# Altium footprint library PD_BQ_Ref_Design_PCB.PcbLib: 40 footprints (part 3 of 3)
Each footprint in its own frame and in the unit in brackets; x right, y up, seen from the top. Pads: shape width x height; smd on the part's side, far side on the other; paste and mask are expansions set on the pad; w line width, h text height; cw(c..) or ccw(c..) is an arc to the next point about the centre after c.
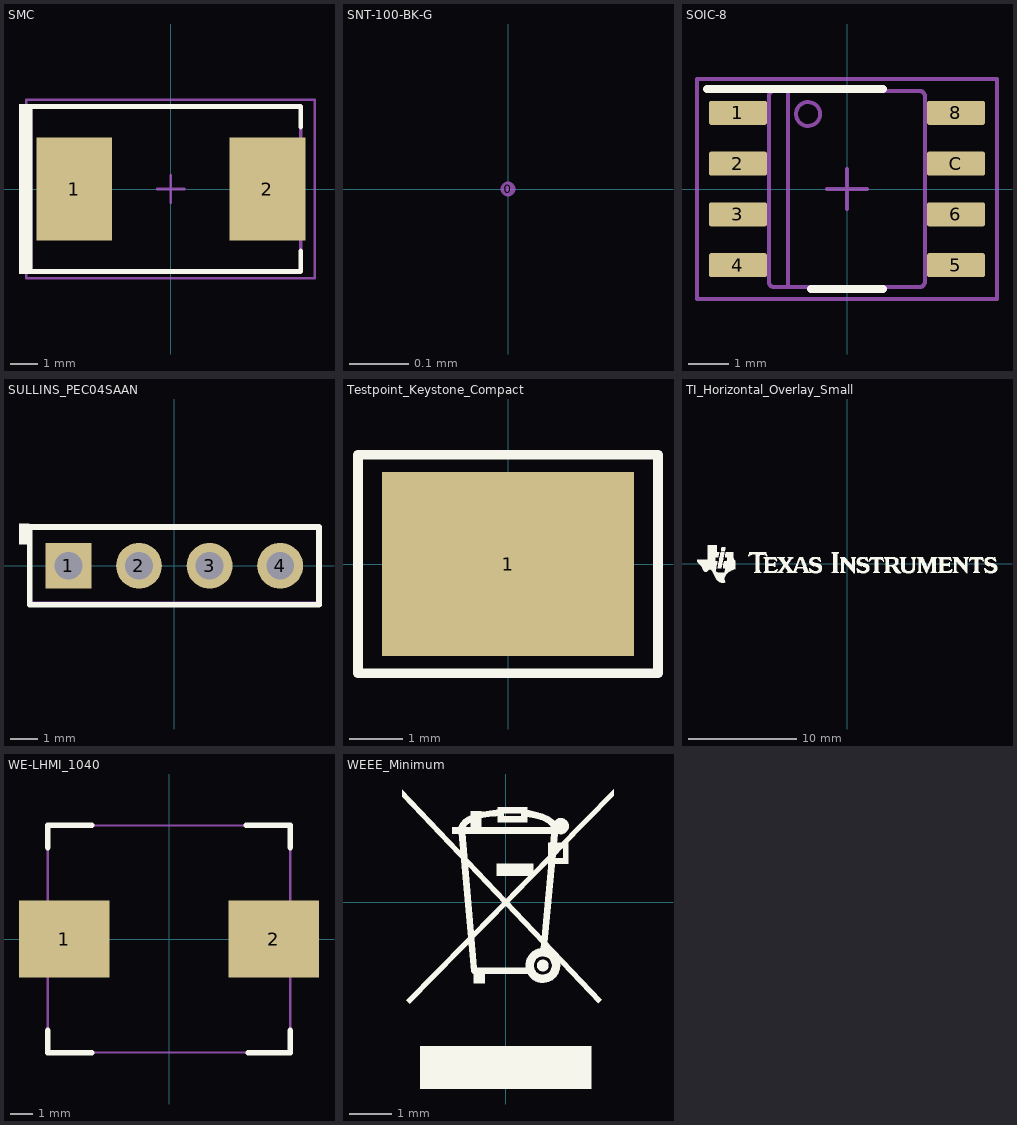
[diagram p2: the footprints below, top view; thin cyan lines are the x and y axes]

## SMC [mil]
pads (2):
  rect 110x150 smd: 1(-140.49,0) 2(140.49,0)
Top Overlay:
  rectangle: -221,-123.5 -201,123.5
  lines w7: -210,-120 189,-120 189,-90.25 ; -210,120 189,120 189,90.25
Mechanical 5:
  rectangle: -221,-123.5 -201,123.5
  lines w5: -210,-120 189,-120 189,120 -210,120
  text ".Designator" at -85,-20 h40
Mechanical 15:
  lines w3.94: -19.69,0 19.68,0 ; 0,-19.68 0,19.68 ; -210.46,-129.92 -210.46,129.92 209.38,129.92 209.38,-129.92 -210.46,-129.92
3D body "SMC_nominal.stp": height 91.25, standoff 0.6, extent -156.49,-116.14 156.5,116.15

## SNT-100-BK-G [mil]
pads (1):
  round 1 on Mech3: 0(0,0)
3D body "SNT-100-XX-X.stp": height 344, standoff 104, extent -100,-50.05 100,50.05

## SOIC-8 [mm]
pads (8):
  rrect17% 1.45x0.6 smd: 1(-2.725,1.905) 2(-2.725,0.635) 3(-2.725,-0.635) 4(-2.725,-1.905) 5(2.725,-1.905) 6(2.725,-0.635) 8(2.725,1.905) C(2.725,0.635)
Top Overlay:
  lines w0.2: -3.5,2.5 0.9,2.5 ; -0.9,-2.5 0.9,-2.5
Mechanical 5:
  circle w0.1: c-0.975,1.875 r0.3
  lines w0.1: -1.475,-2.45 -1.475,2.45 ; -2.375,-2.095 -1.995,-2.095 -1.952,-2.095 -1.952,-1.715 -1.995,-1.715 -2.375,-1.715 ; -2.375,-2.095 -2.589,-2.095 -3.002,-2.095 -3.002,-1.715 -2.589,-1.715 -2.375,-1.715 ; -2.375,-2.095 -2.375,-1.715 ; -2.375,-0.825 -1.995,-0.825 -1.952,-0.825 -1.952,-0.445 -1.995,-0.445 -2.375,-0.445 ; -2.375,-0.825 -2.589,-0.825 -3.002,-0.825 -3.002,-0.445 -2.589,-0.445 -2.375,-0.445 ; -2.375,-0.825 -2.375,-0.445 ; -2.375,0.445 -1.995,0.445 -1.952,0.445 -1.952,0.825 -1.995,0.825 -2.375,0.825 ; -2.375,0.445 -2.589,0.445 -3.002,0.445 -3.002,0.825 -2.589,0.825 -2.375,0.825 ; -2.375,0.445 -2.375,0.825 ; -2.375,1.715 -1.995,1.715 -1.952,1.715 -1.952,2.095 -1.995,2.095 -2.375,2.095 ; -2.375,1.715 -2.589,1.715 -3.002,1.715 -3.002,2.095 -2.589,2.095 -2.375,2.095 ; -2.375,1.715 -2.375,2.095 ; -0.332,-2.45 -1.825,-2.45 -1.826,-2.45 cw(c-1.825,-2.323) -1.952,-2.324 -1.952,-2.323 -1.952,2.323 -1.952,2.324 cw(c-1.825,2.323) -1.826,2.45 -1.825,2.45 -0.332,2.45 ; -0.332,-2.45 -0.182,-2.45 ; -0.332,-2.45 -0.182,-2.45 ; -0.332,2.45 -0.182,2.45 ; -0.332,2.45 -0.182,2.45 ; -0.182,-2.45 0.178,-2.45 ; -0.182,2.45 0.178,2.45 ; 0.178,-2.45 0.328,-2.45 ; 0.178,-2.45 0.328,-2.45 ; 0.178,2.45 0.328,2.45 ; 0.178,2.45 0.328,2.45 ; 0.328,-2.45 1.821,-2.45 1.822,-2.45 ccw(c1.821,-2.323) 1.948,-2.324 1.948,-2.323 1.948,2.323 1.948,2.324 ccw(c1.821,2.323) 1.822,2.45 1.821,2.45 0.328,2.45 ; 2.371,-2.095 2.585,-2.095 2.998,-2.095 2.998,-1.715 2.585,-1.715 2.371,-1.715 ; 2.371,-2.095 1.991,-2.095 1.948,-2.095 1.948,-1.715 1.991,-1.715 2.371,-1.715 ; 2.371,-2.095 2.371,-1.715 ; 2.371,-0.825 2.585,-0.825 2.998,-0.825 2.998,-0.445 2.585,-0.445 2.371,-0.445 ; 2.371,-0.825 1.991,-0.825 1.948,-0.825 1.948,-0.445 1.991,-0.445 2.371,-0.445 ; 2.371,-0.825 2.371,-0.445 ; 2.371,0.445 2.585,0.445 2.998,0.445 2.998,0.825 2.585,0.825 2.371,0.825 ; 2.371,0.445 1.991,0.445 1.948,0.445 1.948,0.825 1.991,0.825 2.371,0.825 ; 2.371,0.445 2.371,0.825 ; 2.371,1.715 2.585,1.715 2.998,1.715 2.998,2.095 2.585,2.095 2.371,2.095 ; 2.371,1.715 1.991,1.715 1.948,1.715 1.948,2.095 1.991,2.095 2.371,2.095 ; 2.371,1.715 2.371,2.095
  text ".Designator" at -0.225,1.65 h0.89
Mechanical 15:
  lines w0.1: -0.5,0 0.5,0 ; 0,-0.5 0,0.5 ; -3.75,-2.75 3.75,-2.75 3.75,2.75 -3.75,2.75 -3.75,-2.75
3D body "SOIC-8akaD0008AakaM08A.stp": height 1.63, standoff 0, extent -3,-2.45 3,2.45

## SULLINS_PEC04SAAN [mm]
pads (4):
  rect 1.65x1.65 hole 1: 1(-3.81,0)
  round 1.65 hole 1: 2(-1.27,0) 3(1.27,0) 4(3.81,0)
Top Overlay:
  rectangle: -5.588,0.762 -5.207,1.524
  lines w0.203: -5.207,-1.397 -5.207,1.397 5.207,1.397 5.207,-1.397 -5.207,-1.397
Mechanical 5:
  lines w0.102: -5.207,-1.333 -5.207,1.333 5.207,1.333 5.207,-1.333 -5.207,-1.333
  text ".Designator" at -1.905,-0.508 h1.52
3D body: height 2.54, standoff 0, extent -5.206,-1.333 5.206,1.333
3D body: height 8.38, standoff -3.05, extent 3.493,-0.317 4.128,0.318
3D body: height 8.38, standoff -3.05, extent 0.953,-0.317 1.588,0.318
3D body: height 8.38, standoff -3.05, extent -1.587,-0.317 -0.952,0.318
3D body: height 8.38, standoff -3.05, extent -4.127,-0.317 -3.492,0.318

## Testpoint_Keystone_Compact [mil]
pads (1):
  rect 185x135 smd: 1(0,0)
Top Overlay:
  lines w7: -110,-80 -100,-80 110,-80 110,80 -30,80 -100,80 -110,80 -110,70 -110,-70 -110,-80
Mechanical 5:
  lines w5: -65.33,-22.51 -63.43,-23.14 ; -63.92,21.31 -54.27,57.33 63.59,25.75 ; -63.09,21.31 -74.92,21.31 -74.92,-18.69 -75,-20 -74.85,-20.08 -63.43,-23.14 ; 63.25,-18.69 75.08,-18.69 75.08,21.31 75.16,22.61 75.01,22.69 63.59,25.75 ; 64.08,-18.69 54.43,-54.72 -63.43,-23.14 ; 65.49,25.13 63.59,25.75
  text ".Designator" at -55,-5 h30
3D body "keystone_5016.stp": height 90.6, standoff 0.6, extent -75.08,-56.03 75.08,56.03

## TI_Horizontal_Overlay_Small [mm]
Top Overlay:
  drawing of 18 lines, arcs and shapes, not listed

## WE-LHMI_1040 [mm]
pads (2):
  rect 4.1x3.5 smd: 1(-4.75,0) 2(4.75,0)
Top Overlay:
  lines w0.254: -5.5,-4.15 -5.5,-5.15 -3.5,-5.15 ; -5.5,4.15 -5.5,5.15 -3.5,5.15 ; 3.5,5.15 5.5,5.15 5.5,4.15 ; 3.6,-5.15 5.5,-5.15 5.5,-4.15
Mechanical 5:
  lines w0.1: -5.5,-5.15 5.5,-5.15 5.5,5.15 -5.5,5.15 -5.5,-5.15
  text ".Designator" at -2.1,-0.5 h1.52
3D body: height 4, standoff 0, extent -5.499,-5.149 5.499,5.149

## WEEE_Minimum [mm]
Top Overlay:
  drawing of 23 lines, arcs and shapes, not listed